# Altium footprint library Serial_number_v4.PcbLib: 1 footprints
Each footprint in its own frame and in the unit in brackets; x right, y up, seen from the top. Pads: shape width x height; smd on the part's side, far side on the other; paste and mask are expansions set on the pad; w line width, h text height; cw(c..) or ccw(c..) is an arc to the next point about the centre after c.
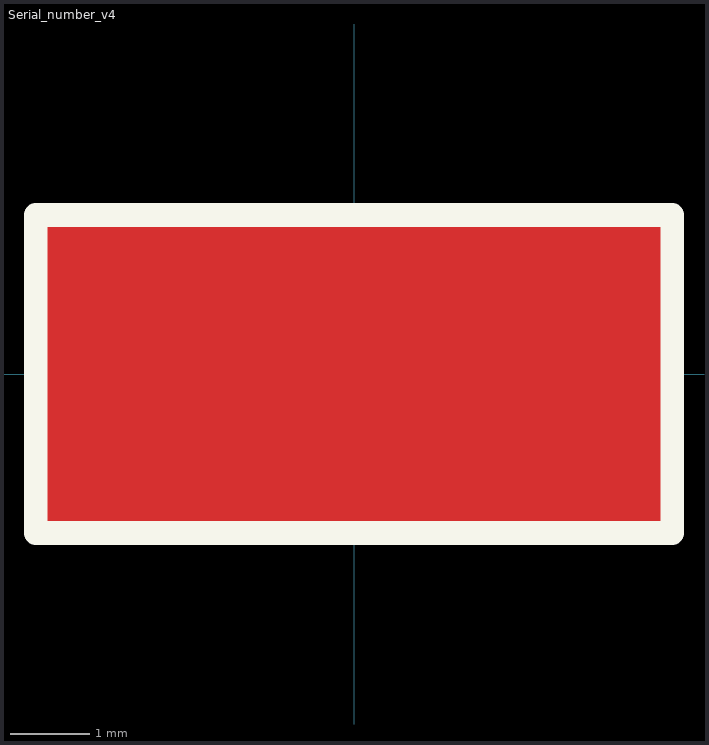
[diagram p0: the footprint, top view; thin cyan lines are the x and y axes]

## Serial_number_v4 [mm]
Top Layer:
  rectangle: -4,-2 4,2
Top Overlay:
  lines w0.3: -4,-2 4,-2 4,2 -4,2 -4,-2